# EAGLE library part DIST_OR_CONTROL (library Dist_OR_Controller)
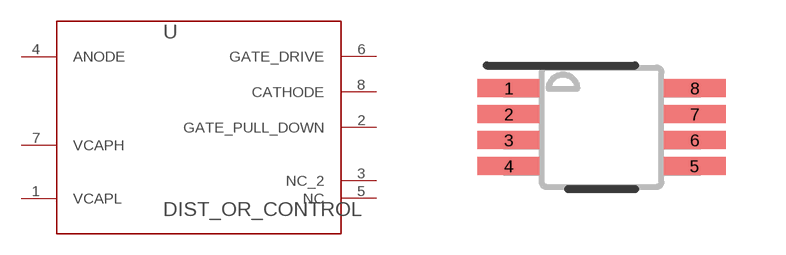
[diagram p0: symbol with the pads of DGK0008A_M; footprint DGK0008A_M]

Designator prefix U

## DIST_OR_CONTROLDGK0008A_M (APPLICATION_BUILDNUMBER: *; COMPTYPE: IC; MANUFACTURER: Texas Instruments; MOUNTTYPE: SMT; PACKAGEREFERENCE: DGK0008A; PARTNUMBER: LM74610QDGKRQ1; PIN_COUNT: 8; REFDES: RefDes; TYPE: TYPE; VALUE: Value)  [DGK0008A_M]
1  VCAPL  pas
2  GATE_PULL_DOWN  pas
3  NC_2  pas
4  ANODE  pwr
5  NC  pas
6  GATE_DRIVE  out
7  VCAPH  pas
8  CATHODE  out

## Footprint DGK0008A_M (pad centres in mm)
smd 1.55 x 0.45: 1 -2.325,0.975; 2 -2.325,0.325; 3 -2.325,-0.325; 4 -2.325,-0.975; 5 2.325,-0.975; 6 2.325,-0.325; 7 2.325,0.325; 8 2.325,0.975